# Altium footprint library PCB - LEADED - DPAK - ST DPAK.PcbLib: 1 footprints
Each footprint in its own frame and in the unit in brackets; x right, y up, seen from the top. Pads: shape width x height; smd on the part's side, far side on the other; paste and mask are expansions set on the pad; w line width, h text height; cw(c..) or ccw(c..) is an arc to the next point about the centre after c.
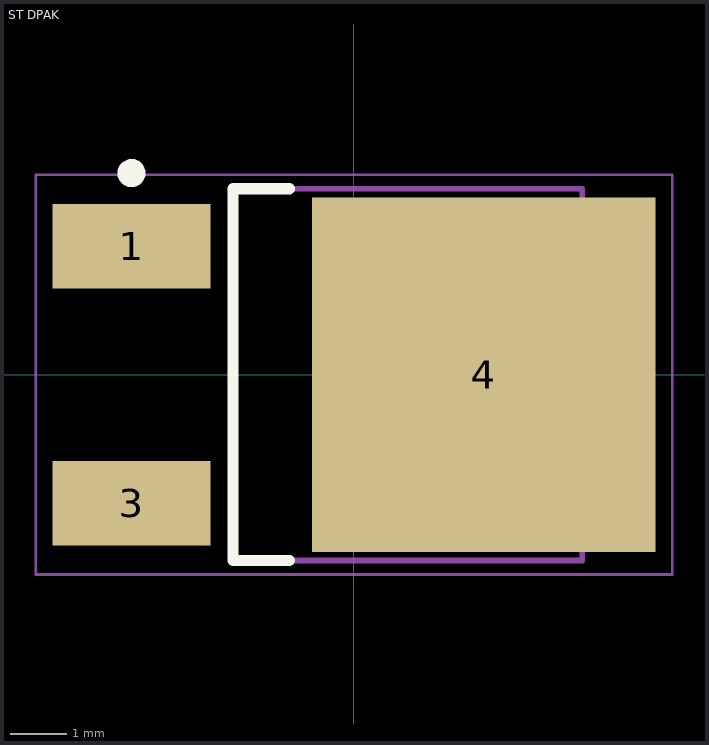
[diagram p0: the footprint, top view; thin cyan lines are the x and y axes]

## ST DPAK [mm] "D-PAK, 3-Pads, Body 6.20x6.66mm (max), IPC Medium Density"
height 2.4
pads (3):
  rect 2.8x1.5 smd: 1(-3.95,2.28) 3(-3.95,-2.28)
  rect 6.1x6.3 smd: 4(2.3,0)
Top Overlay:
  circle w0.25: c-3.95,3.58 r0.125
  lines w0.2: -1.15,-3.3 -2.15,-3.3 -2.15,3.3 -1.15,3.3
Mechanical 13:
  lines w0.1: -2.15,-3.3 -2.15,3.3 4.05,3.3 4.05,-3.3 -2.15,-3.3
Mechanical 15:
  lines w0.05: -5.65,-3.55 -5.65,3.55 5.65,3.55 5.65,-3.55 -5.65,-3.55
  lines w0.1: -0.5,0 0.5,0 ; 0,-0.5 0,0.5
3D body "ST DPAK.step": height 2.4, standoff 0, extent -4.791,-3.3 4.934,3.3